# Altium footprint library WT12-BEACON.PcbLib: 1 footprints
Each footprint in its own frame and in the unit in brackets; x right, y up, seen from the top. Pads: shape width x height; smd on the part's side, far side on the other; paste and mask are expansions set on the pad; w line width, h text height; cw(c..) or ccw(c..) is an arc to the next point about the centre after c.
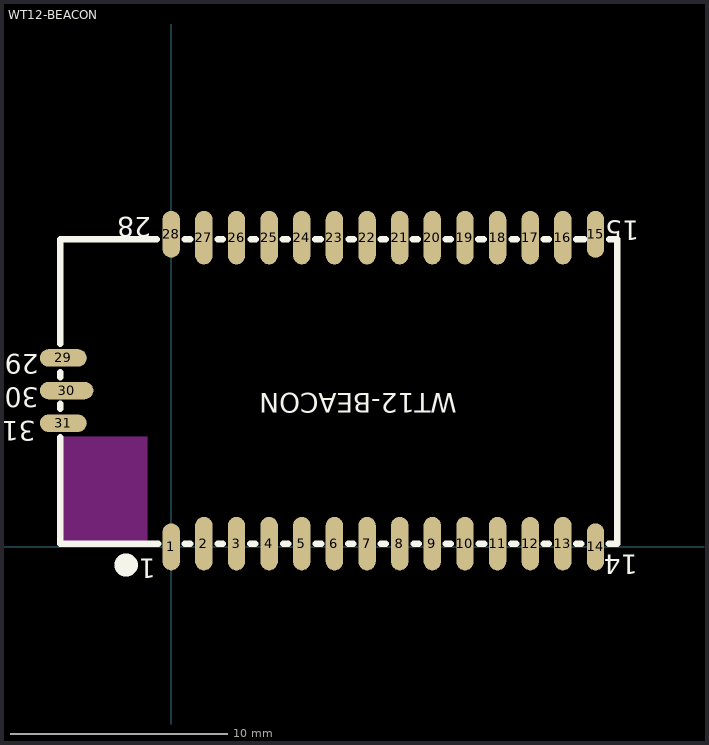
[diagram p0: the footprint, top view; thin cyan lines are the x and y axes]

## WT12-BEACON [mm] "BlueGiga WT12 Bluetooth Module"
height 2.4
pads (31):
  rrect100% 0.8x2.159 smd: 1(0,0) 14(19.5,0) 15(19.5,14.369) 28(0,14.369)
  rrect100% 0.8x2.464 smd: 2(1.5,0.152) 3(3,0.152) 4(4.5,0.152) 5(6,0.152) 6(7.5,0.152) 7(9,0.152) 8(10.5,0.152) 9(12,0.152) 10(13.5,0.152) 11(15,0.152) 12(16.5,0.152) 13(18,0.152) 16(18,14.216) 17(16.5,14.216) 18(15,14.216) 19(13.5,14.216) 20(12,14.216) 21(10.5,14.216) 22(9,14.216) 23(7.5,14.216) 24(6,14.216) 25(4.5,14.216) 26(3,14.216) 27(1.5,14.216)
  rrect100% 2.159x0.8 smd: 29(-4.963,8.684) 31(-4.963,5.684)
  rrect100% 2.464x0.8 smd: 30(-4.81,7.184)
TopOverlay:
  circle w1.016: c-2.077,-0.831 r0.031
  lines w0.305: -5.102,0.137 -0.61,0.137 ; -5.102,14.137 -0.66,14.137 ; -5.1,0.137 -5.1,5.029 ; -5.1,6.35 -5.1,6.579 ; -5.1,7.798 -5.1,8.026 ; -5.1,9.347 -5.1,14.137 ; 0.635,0.137 0.864,0.137 ; 0.635,14.137 0.864,14.137 ; 2.134,0.137 2.362,0.137 ; 2.134,14.137 2.362,14.137 ; 3.632,0.137 3.861,0.137 ; 3.658,14.137 3.886,14.137 ; 5.131,14.137 5.359,14.137 ; 5.156,0.137 5.385,0.137 ; 6.629,14.137 6.858,14.137 ; 6.655,0.137 6.883,0.137 ; 8.128,0.137 8.357,0.137 ; 8.153,14.137 8.382,14.137 ; 9.627,0.137 9.855,0.137 ; 9.627,14.137 9.855,14.137 ; 11.1,14.137 11.328,14.137 ; 11.151,0.137 11.379,0.137 ; 12.624,0.137 12.852,0.137 ; 12.624,14.137 12.852,14.137 ; 14.122,14.137 14.351,14.137 ; 14.148,0.137 14.376,0.137 ; 15.621,0.137 15.85,0.137 ; 15.646,14.137 15.875,14.137 ; 17.12,0.137 17.348,0.137 ; 17.12,14.137 17.348,14.137 ; 18.618,0.137 18.847,0.137 ; 18.618,14.137 18.974,14.137 ; 20.117,0.137 20.5,0.137 20.5,14.137 20.142,14.137
  text "30" at -6.101,7.607 h1.52
  text "29" at -6.101,9.151 h1.52
  text "31" at -6.224,6.084 h1.52
  text "WT12-BEACON" at 13.123,7.36 h1.52
  text "14" at 21.438,-0.07 h1.52
  text "1" at -0.708,-0.235 h1.52
  text "15" at 21.5,15.284 h1.52
  text "28" at -0.914,15.449 h1.52
KeepOutLayer:
  rectangle: -5.074,0.036 -1.085,5.081
3D body: height 2.3, standoff 0.02, extent -5.096,0.121 20.504,14.121